# Altium footprint library CX1000AMPCB封装.PcbLib: 1 footprints
Each footprint in its own frame and in the unit in brackets; x right, y up, seen from the top. Pads: shape width x height; smd on the part's side, far side on the other; paste and mask are expansions set on the pad; w line width, h text height; cw(c..) or ccw(c..) is an arc to the next point about the centre after c.
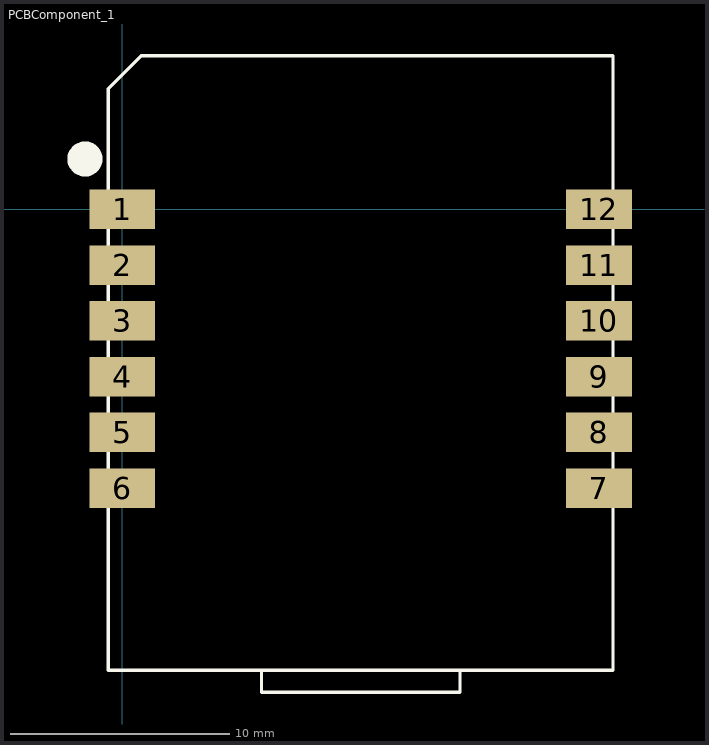
[diagram p0: the footprint, top view; thin cyan lines are the x and y axes]

## PCBComponent_1 [mm]
pads (12):
  rect 3x1.8 smd: 1(0,0) 2(0,-2.54) 3(0,-5.08) 4(0,-7.62) 5(0,-10.16) 6(0,-12.7) 7(21.72,-12.7) 8(21.72,-10.16) 9(21.72,-7.62) 10(21.72,-5.08) 11(21.72,-2.54) 12(21.72,0)
Top Overlay:
  circle w0.8: c-1.7,2.3 r0.4
  lines w0.15: 6.35,-21.01 6.35,-21.995 15.39,-21.995 15.39,-21.01 ; -0.64,-21 -0.64,5.5 0.86,7 22.36,7 22.36,-21 -0.64,-21